# EAGLE library part HD44780 (library lcd)
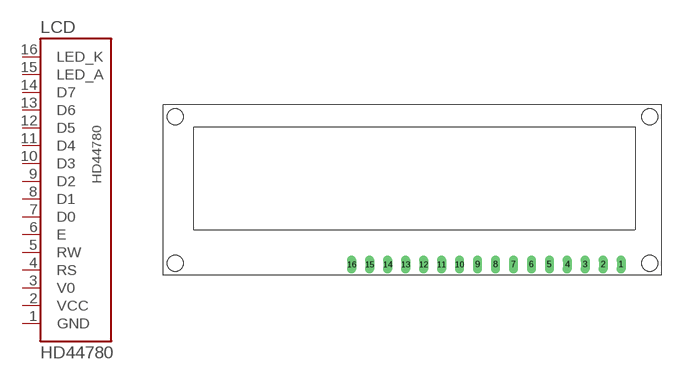
[diagram p2: symbol with the pads of LM016L-HD44780; footprint LM016L-HD44780]

Designator prefix LCD

## HD44780LM016L  [LM016L-HD44780]
1  GND  pas
2  VCC  pas
3  V0  pas
4  RS  pas
5  RW  pas
6  E  pas
7  D0  pas
8  D1  pas
9  D2  pas
10  D3  pas
11  D4  pas
12  D5  pas
13  D6  pas
14  D7  pas
15  LED_A  pas
16  LED_K  pas

## Footprint LM016L-HD44780 (pad centres in mm)
drill 0.8 long: 1 29.21,-12.7; 2 26.67,-12.7; 3 24.13,-12.7; 4 21.59,-12.7; 5 19.05,-12.7; 6 16.51,-12.7; 7 13.97,-12.7; 8 11.43,-12.7; 9 8.89,-12.7; 10 6.35,-12.7; 11 3.81,-12.7; 12 1.27,-12.7; 13 -1.27,-12.7; 14 -3.81,-12.7; 15 -6.35,-12.7; 16 -8.89,-12.7